# Altium footprint library SOT95P280X145-6N.PcbLib: 1 footprints
Each footprint in its own frame and in the unit in brackets; x right, y up, seen from the top. Pads: shape width x height; smd on the part's side, far side on the other; paste and mask are expansions set on the pad; w line width, h text height; cw(c..) or ccw(c..) is an arc to the next point about the centre after c.
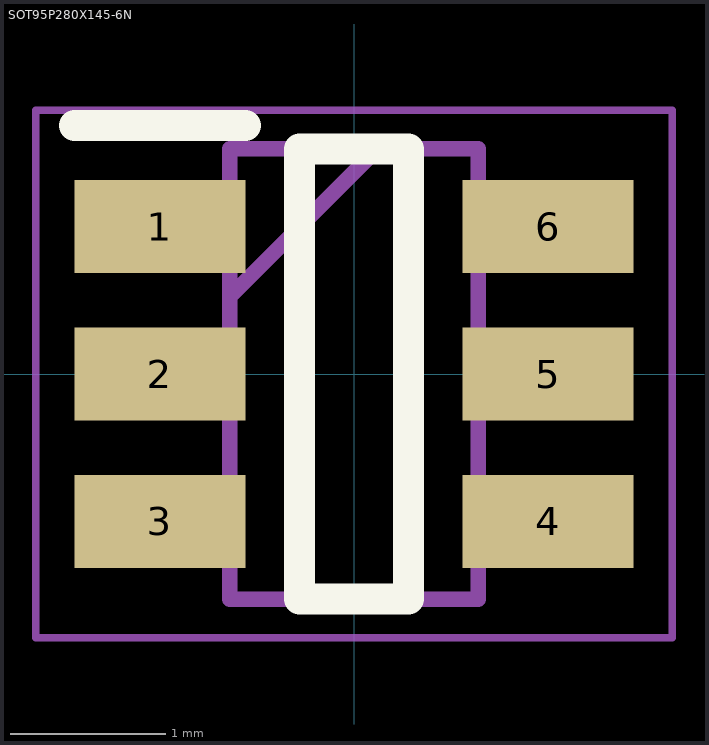
[diagram p0: the footprint, top view; thin cyan lines are the x and y axes]

## SOT95P280X145-6N [mm]
pads (6):
  rect 1.1x0.6 smd: 1(-1.25,0.95) 2(-1.25,0) 3(-1.25,-0.95) 4(1.25,-0.95) 5(1.25,0) 6(1.25,0.95)
L26-Silk Screen Top (Multiple PADS layers...):
  lines w0.2: -1.8,1.6 -0.7,1.6 ; -0.35,-1.45 0.35,-1.45 0.35,1.45 -0.35,1.45 -0.35,-1.45
L15 (Multiple PADS layers...):
  lines w0.1: -0.8,0.5 0.15,1.45 ; -0.8,-1.45 0.8,-1.45 0.8,1.45 -0.8,1.45 -0.8,-1.45
L20:
  lines w0.05: -2.05,-1.7 2.05,-1.7 2.05,1.7 -2.05,1.7 -2.05,-1.7